# Altium footprint library al-connectors.PcbLib: 13 footprints
Each footprint in its own frame and in the unit in brackets; x right, y up, seen from the top. Pads: shape width x height; smd on the part's side, far side on the other; paste and mask are expansions set on the pad; w line width, h text height; cw(c..) or ccw(c..) is an arc to the next point about the centre after c.
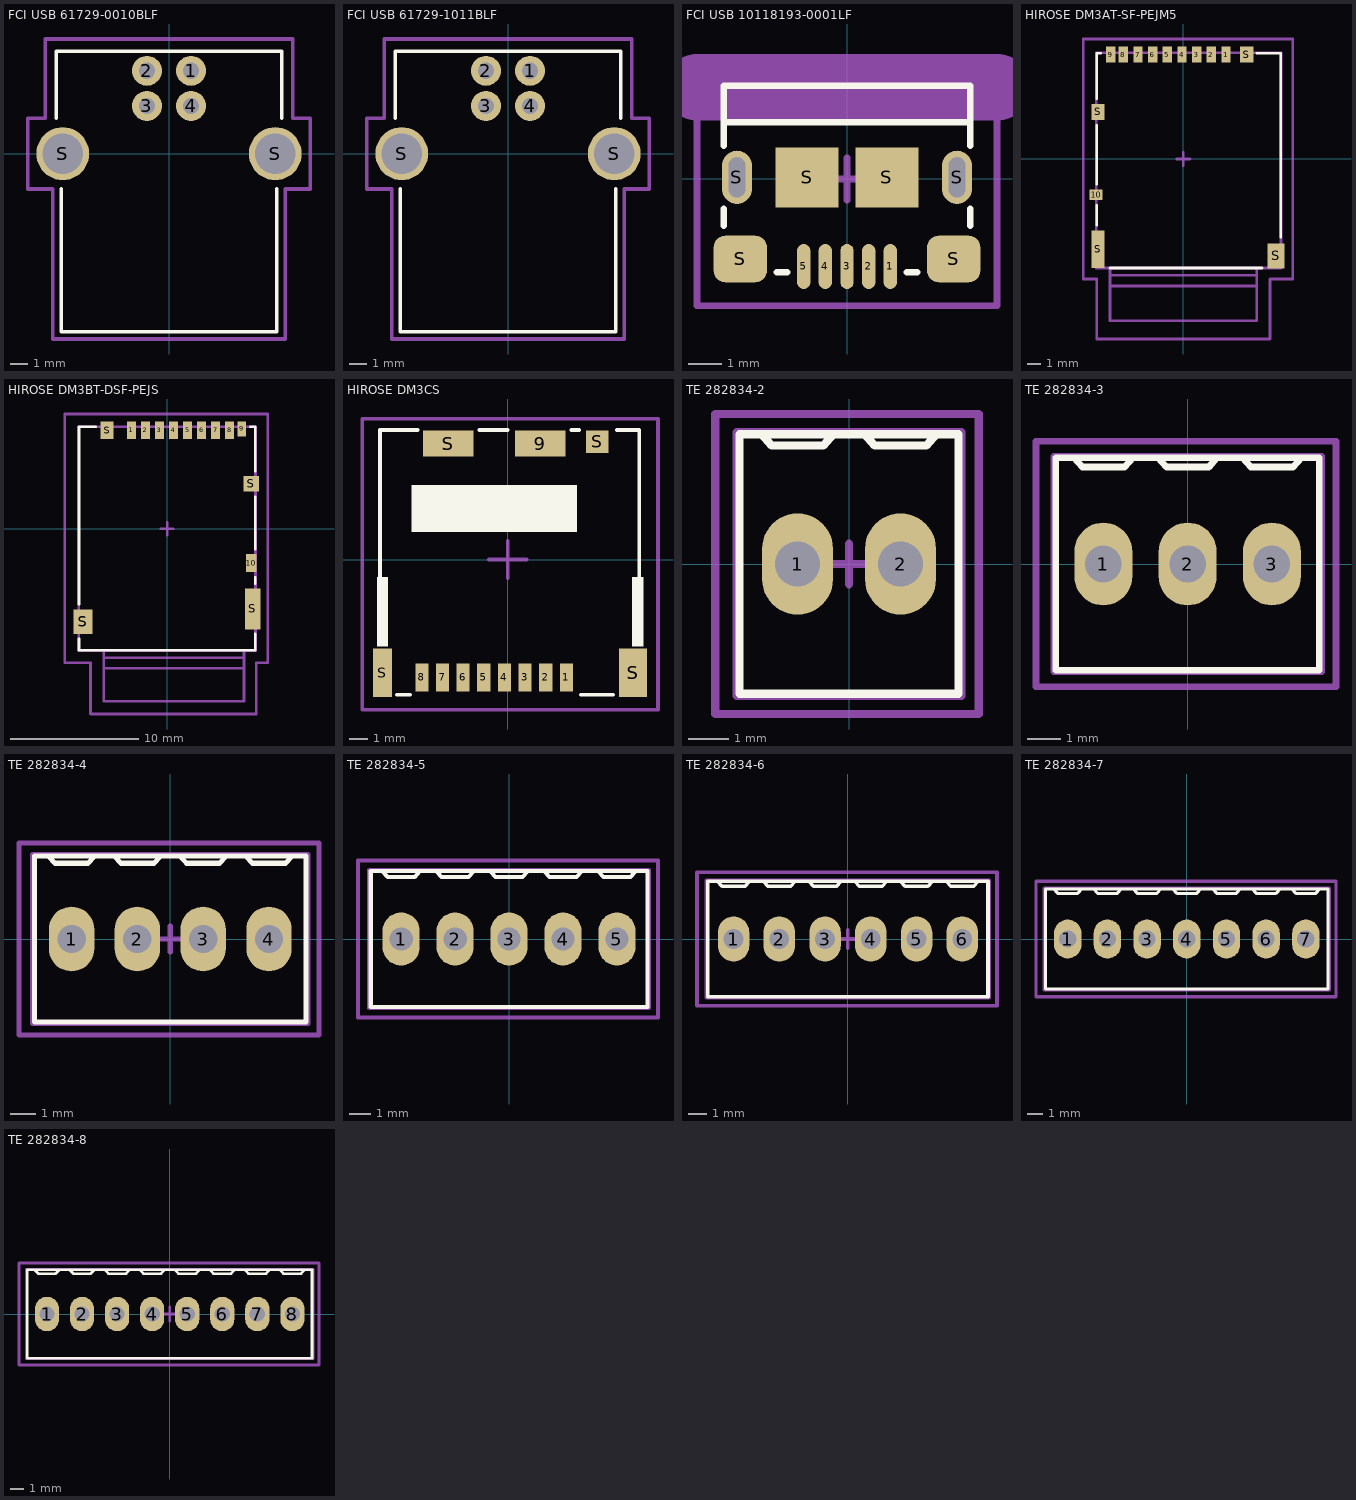
[diagram p0: the footprints below, top view; thin cyan lines are the x and y axes]

## FCI USB 61729-0010BLF [mm]
height 11
pads (6):
  round 1.7 hole 0.92: 1(1.25,4.7) 2(-1.25,4.7) 3(-1.25,2.71) 4(1.25,2.71)
  round 3 hole 2.3: S(-6.02,0) S(6.02,0)
Top Overlay:
  lines w0.2: -6.4,2 -6.4,5.8 6.4,5.8 6.4,2 ; -6.1,-2 -6.1,-10.1 6.1,-10.1 6.1,-2
Mechanical 15:
  lines w0.2: -8,-2 -6.6,-2 -6.6,-10.5 0,-10.5 6.6,-10.5 6.6,-2 8,-2 8,2 7,2 7,6.5 0,6.5 -7,6.5 -7,2 -8,2 -8,-2
3D body "FCI 61729-0010BLF.STEP": height 11, standoff -2.8, extent -6.56,-10.175 6.56,5.765

## FCI USB 61729-1011BLF [mm]
height 11
pads (6):
  round 1.7 hole 0.92: 1(1.25,4.7) 2(-1.25,4.7) 3(-1.25,2.71) 4(1.25,2.71)
  round 3 hole 2.3: S(-6.02,0) S(6.02,0)
Top Overlay:
  lines w0.2: -6.4,2 -6.4,5.8 6.4,5.8 6.4,2 ; -6.1,-2 -6.1,-10.1 6.1,-10.1 6.1,-2
Mechanical 15:
  lines w0.2: -8,-2 -6.6,-2 -6.6,-10.5 0,-10.5 6.6,-10.5 6.6,-2 8,-2 8,2 7,2 7,6.5 0,6.5 -7,6.5 -7,2 -8,2 -8,-2
3D body "FCI 61729-1011BLF.STEP": height 11, standoff -2.8, extent -6.56,-10.175 6.56,5.765

## FCI USB 10118193-0001LF [mm] "USB 2.0 Type B Micro"
height 3.1
pads (11):
  oval 0.4x1.35 smd: 1(1.3,-2.625) 2(0.65,-2.625) 3(0,-2.625) 4(-0.65,-2.625) 5(-1.3,-2.625)
  oval 0.9x1.6 hole 0.5 slot 1.2 at 90 deg: S(-3.3,0.05) S(3.3,0.05)
  rrect50% 1.6x1.4 smd: S(-3.2,-2.4) S(3.2,-2.4)
  rect 1.9x1.8 smd: S(-1.2,0.05) S(1.2,0.05)
Top Overlay:
  lines w0.2: -3.7,-1.4 -3.7,-0.9 ; -3.7,1 -3.7,1.7 ; -2.1,-2.8 -1.8,-2.8 ; 1.8,-2.8 2.1,-2.8 ; 3.7,-1.4 3.7,-0.9 ; 3.7,1 3.7,1.7 ; -3.7,1.7 -3.7,2.8 3.7,2.8 3.7,1.7 ; -3.7,1.7 3.7,1.7
Mechanical 15:
  lines w0.2: -0.635,0 0.635,0 ; 0,-0.635 0,0.635 ; -4.5,-3.8 4.5,-3.8 4.5,3.2 -4.5,3.2 -4.5,-3.8
Mechanical 31:
  lines w2: -4.5,2.754 0,2.754 4.5,2.754
3D body "FCI USB 10118193-0001lfc.STEP": height 2.78, standoff -0.82, extent -3.929,-2.9 3.928,2.76

## HIROSE DM3AT-SF-PEJM5 [mm]
height 1.68
pads (14):
  rect 0.7x1.2 smd: 1(3.2,7.825) 2(2.1,7.825) 3(1,7.825) 4(-0.1,7.825) 5(-1.2,7.825) 6(-2.3,7.825) 7(-3.4,7.825) 8(-4.5,7.825) 9(-5.45,7.825)
  rect 1x0.8 smd: 10(-6.55,-2.675)
  rect 1x2.8 smd: S(-6.4,-6.775)
  rect 1x1.2 smd: S(-6.4,3.525) S(4.75,7.825)
  rect 1.3x1.9 smd: S(6.95,-7.275)
Top Overlay:
  lines w0.2: -6.5,-4.975 -6.5,-3.475 ; -6.5,-1.875 -6.5,2.525 ; -6.5,4.525 -6.5,7.925 -6.2,7.925 ; -5.5,-8.175 5.9,-8.175 ; 5.5,7.925 7.3,7.925 7.3,-5.875
Mechanical 13:
  lines w0.2: -5.5,-8.725 5.5,-8.725 ; -5.5,-8.175 -5.5,-9.525 ; 5.5,-8.175 5.5,-9.525 ; -5.5,-9.525 -5.5,-12.125 5.5,-12.125 5.5,-9.525 ; -5.5,-9.525 5.5,-9.525 ; -6.525,-8.175 -6.525,7.975 7.325,7.975 7.325,-8.175 -6.525,-8.175
Mechanical 15:
  lines w0.2: -0.5,0 0.5,0 ; 0,-0.5 0,0.5 ; -7.5,-9 -6.5,-9 -6.5,-13.5 6.5,-13.5 6.5,-9 8.2,-9 8.2,-8 8.2,9 -7.5,9 -7.5,-8.5 -7.5,-9
3D body "Hirose DM3AT-SF-PEJM5.STEP": height 1.68, standoff 0, extent -6.525,-8.175 7.325,7.975

## HIROSE DM3BT-DSF-PEJS [mm]
height 2.38
pads (14):
  rect 0.7x1.4 smd: 1(-2.8,7.725) 2(-1.7,7.725) 3(-0.6,7.725) 4(0.5,7.725) 5(1.6,7.725) 6(2.7,7.725) 7(3.8,7.725) 8(4.9,7.725)
  rect 0.7x1.2 smd: 9(5.85,7.825)
  rect 0.8x1.4 smd: 10(6.6,-2.675)
  rect 1.5x1.9 smd: S(-6.6,-7.275)
  rect 1x1.4 smd: S(-4.7,7.725)
  rect 1.2x1.2 smd: S(6.6,3.525)
  rect 1.2x3.2 smd: S(6.7,-6.275)
Top Overlay:
  lines w0.2: -6.9,-8.6 -6.9,-9.5 6.9,-9.5 6.9,-8.2 ; -6.9,-5.9 -6.9,8 -5.6,8 ; 6.5,8 6.9,8 6.9,4.5 ; 6.9,-4.3 6.9,-3.8 ; 6.9,-1.6 6.9,2.5
Mechanical 13:
  lines w0.2: -4.975,-10.1 6.025,-10.1 ; -4.975,-9.55 -4.975,-10.9 ; 6.025,-9.55 6.025,-10.9 ; -4.975,-10.9 -4.975,-13.5 6.025,-13.5 6.025,-10.9 ; -4.975,-10.9 6.025,-10.9 ; -6.925,-9.55 -6.925,8 6.925,8 6.925,-9.55 -6.925,-9.55
Mechanical 15:
  lines w0.2: -0.5,0 0.5,0 ; 0,-0.5 0,0.5 ; -8,-10.5 -8,9 7.9,9 7.9,-10.5 7,-10.5 7,-14.5 -6,-14.5 -6,-10.5 -8,-10.5
3D body "Hirose DM3BT-DSF-PEJS.STEP": height 1.83, standoff 0, extent -6.925,-9.55 6.925,8

## HIROSE DM3CS [mm]
height 1.83
pads (13):
  rect 0.7x1.5 smd: 1(3.125,-6.275) 2(2.025,-6.275) 3(0.925,-6.275) 4(-0.175,-6.275) 5(-1.275,-6.275) 6(-2.375,-6.275) 7(-3.475,-6.275) 8(-4.575,-6.275)
  rect 2.7x1.4 smd: 9(1.725,6.175) S(-3.175,6.175)
  rect 1x2.6 smd: S(-6.675,-6.025)
  rect 1.2x1.2 smd: S(4.775,6.275)
  rect 1.5x2.6 smd: S(6.675,-6.025)
Top Overlay:
  rectangle: -5.125,1.475 3.675,3.975
  rectangle: -6.975,-4.625 -6.375,-0.925
  rectangle: 6.625,-4.625 7.225,-0.925
  lines w0.2: -6.7,-4.4 -6.8,-4.3 -6.8,6.9 -4.8,6.9 ; -5.9,-7.2 -5.2,-7.2 ; -1.5,6.9 0,6.9 ; 3.4,6.9 3.8,6.9 ; 3.9,-7.2 5.6,-7.2 ; 5.8,6.9 7,6.9 7,-4.4
Mechanical 15:
  lines w0.2: -1,0 1,0 ; 0,-1 0,1 ; -7.75,-8 8,-8 8,7.5 -7.75,7.5 -7.75,-8
3D body "Hirose DM3CS-SF.STEP": height 1.93, standoff 0, extent -6.8,-7.2 7,6.9

## TE 282834-2 [mm]
height 10
pads (2):
  oval 1.75x2.5 hole 1.1: 1(-1.27,0) 2(1.27,0)
Top Overlay:
  lines w0.2: -2.159,3.2 -1.905,2.921 -0.635,2.921 -0.381,3.2 ; 0.381,3.2 0.635,2.921 1.905,2.921 2.159,3.2 ; -2.7,-3.2 -2.6,-3.2 2.7,-3.2 2.7,3.2 -2.7,3.2 -2.7,-3.2
Mechanical 13:
  lines w0.2: -2.77,-3.25 -2.77,3.25 2.77,3.25 2.77,-3.25 -2.77,-3.25
Mechanical 15:
  lines w0.2: -0.5,0 0.5,0 ; 0,-0.5 0,0.5 ; -3.3,-3.7 3.2,-3.7 3.2,-2.9 3.2,3.7 -3.3,3.7 -3.3,-3.3 -3.3,-3.7
3D body "TE Term Block 2port 282834-2-c-3d.STEP": height 10, standoff -3.4, extent -2.77,-3.25 2.77,3.25

## TE 282834-3 [mm]
height 10
pads (3):
  oval 1.75x2.5 hole 1.1: 1(-2.54,0) 2(0,0) 3(2.54,0)
Top Overlay:
  lines w0.2: -3.429,3.2 -3.175,2.921 -1.905,2.921 -1.651,3.2 ; -0.889,3.2 -0.635,2.921 0.635,2.921 0.889,3.2 ; 1.651,3.2 1.905,2.921 3.175,2.921 3.429,3.2 ; -3.97,-3.2 -3.97,3.2 3.97,3.2 3.97,-3.2 -3.87,-3.2 -3.97,-3.2
Mechanical 13:
  lines w0.2: -4.04,-3.25 4.04,-3.25 4.04,3.25 -4.04,3.25 -4.04,-3.25
Mechanical 15:
  lines w0.2: -0.5,0 0.5,0 ; 0,-0.5 0,0.5 ; -4.57,-3.7 -4.57,-3.3 -4.57,3.7 4.47,3.7 4.47,-2.9 4.47,-3.7 -4.57,-3.7
3D body "TE Term Block 3port 282834-3-c-3d.STEP": height 10, standoff -3.4, extent -4.04,-3.25 4.04,3.25

## TE 282834-4 [mm]
height 10
pads (4):
  oval 1.75x2.5 hole 1.1: 1(-3.81,0) 2(-1.27,0) 3(1.27,0) 4(3.81,0)
Top Overlay:
  lines w0.2: -4.699,3.2 -4.445,2.921 -3.175,2.921 -2.921,3.2 ; -2.159,3.2 -1.905,2.921 -0.635,2.921 -0.381,3.2 ; 0.381,3.2 0.635,2.921 1.905,2.921 2.159,3.2 ; 2.921,3.2 3.175,2.921 4.445,2.921 4.699,3.2 ; -5.24,-3.2 -5.14,-3.2 5.24,-3.2 5.24,3.2 -5.24,3.2 -5.24,-3.2
Mechanical 13:
  lines w0.2: -5.31,-3.25 -5.31,3.25 5.31,3.25 5.31,-3.25 -5.31,-3.25
Mechanical 15:
  lines w0.2: -0.5,0 0.5,0 ; 0,-0.5 0,0.5 ; -5.84,-3.7 5.74,-3.7 5.74,-2.9 5.74,3.7 -5.84,3.7 -5.84,-3.3 -5.84,-3.7
3D body "TE Term Block 4port 282834-4-c-3d.STEP": height 10, standoff -3.4, extent -5.31,-3.25 5.31,3.25

## TE 282834-5 [mm]
height 10
pads (5):
  oval 1.75x2.5 hole 1.1: 1(-5.08,0) 2(-2.54,0) 3(0,0) 4(2.54,0) 5(5.08,0)
Top Overlay:
  lines w0.2: -5.969,3.2 -5.715,2.921 -4.445,2.921 -4.191,3.2 ; -3.429,3.2 -3.175,2.921 -1.905,2.921 -1.651,3.2 ; -0.889,3.2 -0.635,2.921 0.635,2.921 0.889,3.2 ; 1.651,3.2 1.905,2.921 3.175,2.921 3.429,3.2 ; 4.191,3.2 4.445,2.921 5.715,2.921 5.969,3.2 ; -6.51,-3.2 -6.51,3.2 6.51,3.2 6.51,-3.2 -6.41,-3.2 -6.51,-3.2
Mechanical 13:
  lines w0.2: -6.58,-3.25 6.58,-3.25 6.58,3.25 -6.58,3.25 -6.58,-3.25
Mechanical 15:
  lines w0.2: -0.5,0 0.5,0 ; 0,-0.5 0,0.5 ; -7.11,-3.7 -7.11,-3.3 -7.11,3.7 7.01,3.7 7.01,-2.9 7.01,-3.7 -7.11,-3.7
3D body "TE Term Block 5port 282834-5-c-3d.STEP": height 10, standoff -3.4, extent -6.58,-3.25 6.58,3.25

## TE 282834-6 [mm]
height 10
pads (6):
  oval 1.75x2.5 hole 1.1: 1(-6.35,0) 2(-3.81,0) 3(-1.27,0) 4(1.27,0) 5(3.81,0) 6(6.35,0)
Top Overlay:
  lines w0.2: -7.239,3.2 -6.985,2.921 -5.715,2.921 -5.461,3.2 ; -4.699,3.2 -4.445,2.921 -3.175,2.921 -2.921,3.2 ; -2.159,3.2 -1.905,2.921 -0.635,2.921 -0.381,3.2 ; 0.381,3.2 0.635,2.921 1.905,2.921 2.159,3.2 ; 2.921,3.2 3.175,2.921 4.445,2.921 4.699,3.2 ; 5.461,3.2 5.715,2.921 6.985,2.921 7.239,3.2 ; -7.78,-3.2 -7.68,-3.2 7.78,-3.2 7.78,3.2 -7.78,3.2 -7.78,-3.2
Mechanical 13:
  lines w0.2: -7.85,-3.25 -7.85,3.25 7.85,3.25 7.85,-3.25 -7.85,-3.25
Mechanical 15:
  lines w0.2: -0.5,0 0.5,0 ; 0,-0.5 0,0.5 ; -8.38,-3.7 8.28,-3.7 8.28,-2.9 8.28,3.7 -8.38,3.7 -8.38,-3.3 -8.38,-3.7
3D body "TE Term Block 6port 282834-6-c-3d.STEP": height 10, standoff -3.4, extent -7.85,-3.25 7.85,3.25

## TE 282834-7 [mm]
height 10
pads (7):
  oval 1.75x2.5 hole 1.1: 1(-7.62,0) 2(-5.08,0) 3(-2.54,0) 4(0,0) 5(2.54,0) 6(5.08,0) 7(7.62,0)
Top Overlay:
  lines w0.2: -8.509,3.2 -8.255,2.921 -6.985,2.921 -6.731,3.2 ; -5.969,3.2 -5.715,2.921 -4.445,2.921 -4.191,3.2 ; -3.429,3.2 -3.175,2.921 -1.905,2.921 -1.651,3.2 ; -0.889,3.2 -0.635,2.921 0.635,2.921 0.889,3.2 ; 1.651,3.2 1.905,2.921 3.175,2.921 3.429,3.2 ; 4.191,3.2 4.445,2.921 5.715,2.921 5.969,3.2 ; 6.731,3.2 6.985,2.921 8.255,2.921 8.509,3.2 ; -9.05,-3.2 -8.95,-3.2 9.05,-3.2 9.05,3.2 -9.05,3.2 -9.05,-3.2
Mechanical 13:
  lines w0.2: -9.12,-3.25 -9.12,3.25 9.12,3.25 9.12,-3.25 -9.12,-3.25
Mechanical 15:
  lines w0.2: -0.5,0 0.5,0 ; 0,-0.5 0,0.5 ; -9.65,-3.7 9.55,-3.7 9.55,-2.9 9.55,3.7 -9.65,3.7 -9.65,-3.3 -9.65,-3.7
3D body "TE Term Block 7port 282834-7-c-3d.STEP": height 10, standoff -3.4, extent -9.12,-3.25 9.12,3.25

## TE 282834-8 [mm]
height 10
pads (8):
  oval 1.75x2.5 hole 1.1: 1(-8.89,0) 2(-6.35,0) 3(-3.81,0) 4(-1.27,0) 5(1.27,0) 6(3.81,0) 7(6.35,0) 8(8.89,0)
Top Overlay:
  lines w0.2: -9.779,3.2 -9.525,2.921 -8.255,2.921 -8.001,3.2 ; -7.239,3.2 -6.985,2.921 -5.715,2.921 -5.461,3.2 ; -4.699,3.2 -4.445,2.921 -3.175,2.921 -2.921,3.2 ; -2.159,3.2 -1.905,2.921 -0.635,2.921 -0.381,3.2 ; 0.381,3.2 0.635,2.921 1.905,2.921 2.159,3.2 ; 2.921,3.2 3.175,2.921 4.445,2.921 4.699,3.2 ; 5.461,3.2 5.715,2.921 6.985,2.921 7.239,3.2 ; 8.001,3.2 8.255,2.921 9.525,2.921 9.779,3.2 ; -10.32,-3.2 -10.22,-3.2 10.32,-3.2 10.32,3.2 -10.32,3.2 -10.32,-3.2
Mechanical 13:
  lines w0.2: -10.39,-3.25 -10.39,3.25 10.39,3.25 10.39,-3.25 -10.39,-3.25
Mechanical 15:
  lines w0.2: -0.5,0 0.5,0 ; 0,-0.5 0,0.5 ; -10.92,-3.7 10.82,-3.7 10.82,-2.9 10.82,3.7 -10.92,3.7 -10.92,-3.3 -10.92,-3.7
3D body "TE Term Block 8port 282834-8-c-3d.STEP": height 10, standoff -3.4, extent -10.39,-3.25 10.39,3.25